# EAGLE library part DIMM100 (library BMC components)
MOLEX-DIMM100-876301001 This is the 100-pin DIMM socket used by the TI controlCARDs.
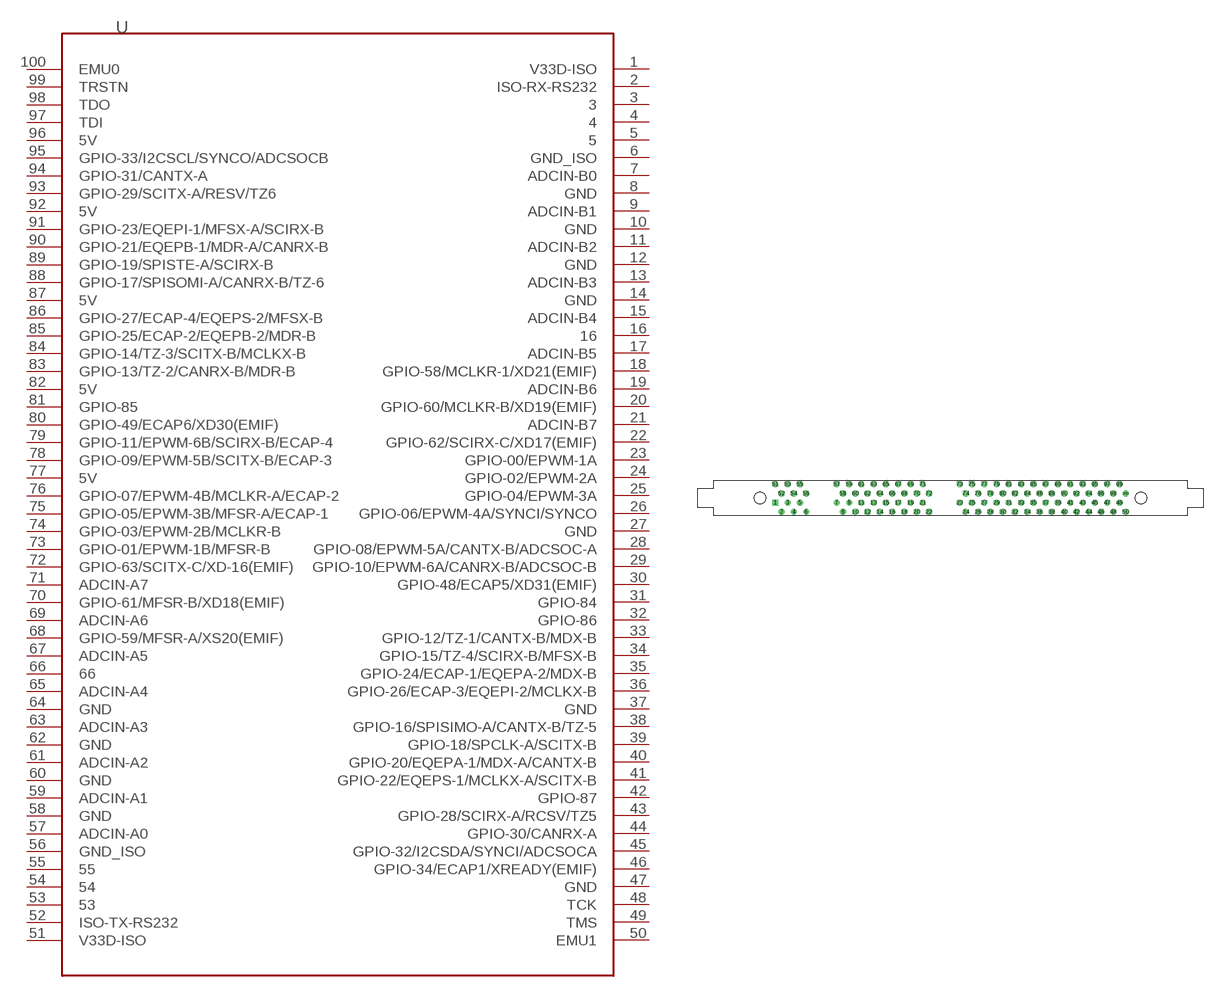
[diagram p0: symbol with the pads of DIMM100; footprint DIMM100]

Designator prefix -

## DIMM100-VERT  [DIMM100]
1  V33D-ISO
2  ISO-RX-RS232
3  3
4  4
5  5
6  GND_ISO
7  ADCIN-B0
8  GND
9  ADCIN-B1
10  GND
11  ADCIN-B2
12  GND
13  ADCIN-B3
14  GND
15  ADCIN-B4
16  16
17  ADCIN-B5
18  GPIO-58/MCLKR-1/XD21(EMIF)
19  ADCIN-B6
20  GPIO-60/MCLKR-B/XD19(EMIF)
21  ADCIN-B7
22  GPIO-62/SCIRX-C/XD17(EMIF)
23  GPIO-00/EPWM-1A
24  GPIO-02/EPWM-2A
25  GPIO-04/EPWM-3A
26  GPIO-06/EPWM-4A/SYNCI/SYNCO
27  GND
28  GPIO-08/EPWM-5A/CANTX-B/ADCSOC-A
29  GPIO-10/EPWM-6A/CANRX-B/ADCSOC-B
30  GPIO-48/ECAP5/XD31(EMIF)
31  GPIO-84
32  GPIO-86
33  GPIO-12/TZ-1/CANTX-B/MDX-B
34  GPIO-15/TZ-4/SCIRX-B/MFSX-B
35  GPIO-24/ECAP-1/EQEPA-2/MDX-B
36  GPIO-26/ECAP-3/EQEPI-2/MCLKX-B
37  GND
38  GPIO-16/SPISIMO-A/CANTX-B/TZ-5
39  GPIO-18/SPCLK-A/SCITX-B
40  GPIO-20/EQEPA-1/MDX-A/CANTX-B
41  GPIO-22/EQEPS-1/MCLKX-A/SCITX-B
42  GPIO-87
43  GPIO-28/SCIRX-A/RCSV/TZ5
44  GPIO-30/CANRX-A
45  GPIO-32/I2CSDA/SYNCI/ADCSOCA
46  GPIO-34/ECAP1/XREADY(EMIF)
47  GND
48  TCK
49  TMS
50  EMU1
51  V33D-ISO
52  ISO-TX-RS232
53  53
54  54
55  55
56  GND_ISO
57  ADCIN-A0
58  GND
59  ADCIN-A1
60  GND
61  ADCIN-A2
62  GND
63  ADCIN-A3
64  GND
65  ADCIN-A4
66  66
67  ADCIN-A5
68  GPIO-59/MFSR-A/XS20(EMIF)
69  ADCIN-A6
70  GPIO-61/MFSR-B/XD18(EMIF)
71  ADCIN-A7
72  GPIO-63/SCITX-C/XD-16(EMIF)
73  GPIO-01/EPWM-1B/MFSR-B
74  GPIO-03/EPWM-2B/MCLKR-B
75  GPIO-05/EPWM-3B/MFSR-A/ECAP-1
76  GPIO-07/EPWM-4B/MCLKR-A/ECAP-2
77  5V  pwr
78  GPIO-09/EPWM-5B/SCITX-B/ECAP-3
79  GPIO-11/EPWM-6B/SCIRX-B/ECAP-4
80  GPIO-49/ECAP6/XD30(EMIF)
81  GPIO-85
82  5V
83  GPIO-13/TZ-2/CANRX-B/MDR-B
84  GPIO-14/TZ-3/SCITX-B/MCLKX-B
85  GPIO-25/ECAP-2/EQEPB-2/MDR-B
86  GPIO-27/ECAP-4/EQEPS-2/MFSX-B
87  5V
88  GPIO-17/SPISOMI-A/CANRX-B/TZ-6
89  GPIO-19/SPISTE-A/SCIRX-B
90  GPIO-21/EQEPB-1/MDR-A/CANRX-B
91  GPIO-23/EQEPI-1/MFSX-A/SCIRX-B
92  5V
93  GPIO-29/SCITX-A/RESV/TZ6
94  GPIO-31/CANTX-A
95  GPIO-33/I2CSCL/SYNCO/ADCSOCB
96  5V
97  TDI
98  TDO
99  TRSTN
100  EMU0

## Footprint DIMM100 (pad centres in mm)
drill 0.76 square: 1 0,-0.955
drill 0.76 round: 2 1.27,-2.86; 3 2.54,-0.955; 4 3.81,-2.86; 5 5.08,-0.955; 6 6.35,-2.86; 7 12.7,-0.955; 8 13.97,-2.86; 9 15.24,-0.955; 10 16.51,-2.86; 11 17.78,-0.955; 12 19.05,-2.86; 13 20.32,-0.955; 14 21.59,-2.86; 15 22.86,-0.955; 16 24.13,-2.86; 17 25.4,-0.955; 18 26.67,-2.86; 19 27.94,-0.955; 20 29.21,-2.86; 21 30.48,-0.955; 22 31.75,-2.86; 23 38.1,-0.955; 24 39.37,-2.86; 25 40.64,-0.955; 26 41.91,-2.86; 27 43.18,-0.955; 28 44.45,-2.86; 29 45.72,-0.955; 30 46.99,-2.86; 31 48.26,-0.955; 32 49.53,-2.86; 33 50.8,-0.955; 34 52.07,-2.86; 35 53.34,-0.955; 36 54.61,-2.86; 37 55.88,-0.955; 38 57.15,-2.86; 39 58.42,-0.955; 40 59.69,-2.86; 41 60.96,-0.955; 42 62.23,-2.86; 43 63.5,-0.955; 44 64.77,-2.86; 45 66.04,-0.955; 46 67.31,-2.86; 47 68.58,-0.955; 48 69.85,-2.86; 49 71.12,-0.955; 50 72.39,-2.86; 51 0,2.86; 52 1.27,0.955; 53 2.54,2.86; 54 3.81,0.955; 55 5.08,2.86; 56 6.35,0.955; 57 12.7,2.86; 58 13.97,0.955; 59 15.24,2.86; 60 16.51,0.955; 61 17.78,2.86; 62 19.05,0.955; 63 20.32,2.86; 64 21.59,0.955; 65 22.86,2.86; 66 24.13,0.955; 67 25.4,2.86; 68 26.67,0.955; 69 27.94,2.86; 70 29.21,0.955; 71 30.48,2.86; 72 31.75,0.955; 73 38.1,2.86; 74 39.37,0.955; 75 40.64,2.86; 76 41.91,0.955; 77 43.18,2.86; 78 44.45,0.955; 79 45.72,2.86; 80 46.99,0.955; 81 48.26,2.86; 82 49.53,0.955; 83 50.8,2.86; 84 52.07,0.955; 85 53.34,2.86; 86 54.61,0.955; 87 55.88,2.86; 88 57.15,0.955; 89 58.42,2.86; 90 59.69,0.955; 91 60.96,2.86; 92 62.23,0.955; 93 63.5,2.86; 94 64.77,0.955; 95 66.04,2.86; 96 67.31,0.955; 97 68.58,2.86; 98 69.85,0.955; 99 71.12,2.86; 100 72.39,0.955
hole 2.36 at -3.175,0
hole 2.36 at 75.565,0